# EAGLE library part TLC5971 (library Rebel)
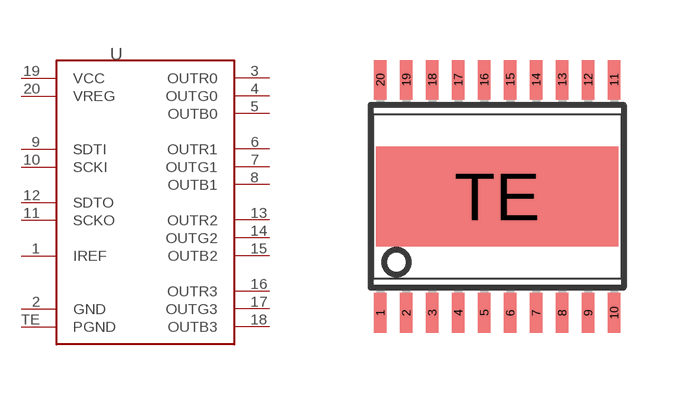
[diagram p24: symbol with the pads of TSSOP20-TE; footprint TSSOP20-TE]

Designator prefix -

## TLC5971QFN  [TSSOP20-TE]
1  IREF
2  GND
3  OUTR0
4  OUTG0
5  OUTB0
6  OUTR1
7  OUTG1
8  OUTB1
9  SDTI
10  SCKI
11  SCKO
12  SDTO
13  OUTR2
14  OUTG2
15  OUTB2
16  OUTR3
17  OUTG3
18  OUTB3
19  VCC
20  VREG
TE  PGND

## Footprint TSSOP20-TE (pad centres in mm)
Thermally enhanced 20-pin TSSOP (LTC3265).
smd 0.305 x 0.991: 1 -2.925,-2.918; 2 -2.275,-2.918; 3 -1.625,-2.918; 4 -0.975,-2.918; 5 -0.325,-2.918; 6 0.325,-2.918; 7 0.975,-2.918; 8 1.625,-2.918; 9 2.275,-2.918; 10 2.925,-2.918; 11 2.925,2.918; 12 2.275,2.918; 13 1.625,2.918; 14 0.975,2.918; 15 0.325,2.918; 16 -0.325,2.918; 17 -0.975,2.918; 18 -1.625,2.918; 19 -2.275,2.918; 20 -2.925,2.918
smd 6.07 x 2.5: TE 0,0